# Altium footprint library dfn.PcbLib: 4 footprints
Each footprint in its own frame and in the unit in brackets; x right, y up, seen from the top. Pads: shape width x height; smd on the part's side, far side on the other; paste and mask are expansions set on the pad; w line width, h text height; cw(c..) or ccw(c..) is an arc to the next point about the centre after c.
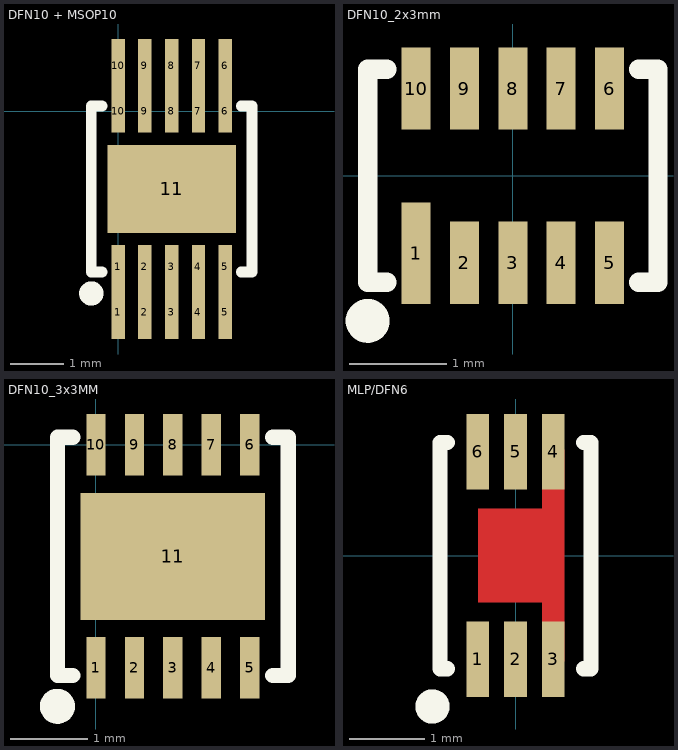
[diagram p0: the footprints below, top view; thin cyan lines are the x and y axes]

## DFN10 + MSOP10 [mm] "10 lead 3 x 3 mm"
height 1
pads (21):
  rect 0.25x0.8 smd mask+0.05: 1(0,-2.9) 2(0.5,-2.9) 3(1,-2.9) 4(1.5,-2.9) 5(2,-2.9) 6(2,0) 7(1.5,0) 8(1,0) 9(0.5,0) 10(0,0)
  rect 0.25x1 smd mask+0.1: 1(0,-3.75) 2(0.5,-3.75) 3(1,-3.75) 4(1.5,-3.75) 5(2,-3.75) 6(2,0.85) 7(1.5,0.85) 8(1,0.85) 9(0.5,0.85) 10(0,0.85)
  rect 2.4x1.65 smd: 11(1,-1.45)
Top Overlay:
  circle w0.254: c-0.5,-3.4 r0.1
  lines w0.2: -0.5,-2.85 -0.5,-0.05 ; -0.3,-3 -0.5,-3 -0.5,-2.8 -0.5,0.1 -0.3,0.1 ; 2.3,-3 2.5,-3 2.5,-0.1 2.5,0.1 2.3,0.1 ; 2.5,-2.85 2.5,-0.05
3D body "User Library-My-DFN-10-3x3-0_5.STEP": height 0.8, standoff 0, extent -0.55,-3.01 2.55,0.11
3D body "User Library-msop-10.step": height 1.15, standoff 0, extent -0.5,-3.9 2.5,1

## DFN10_2x3mm [mm] "10 lead 2 x 3 mm"
height 1
pads (10):
  rect 0.3x1.05 smd mask+0.05: 1(-1,-0.8)
  rect 0.3x0.85 smd mask+0.05: 2(-0.5,-0.9) 3(0,-0.9) 4(0.5,-0.9) 5(1,-0.9) 6(1,0.9) 7(0.5,0.9) 8(0,0.9) 9(-0.5,0.9) 10(-1,0.9)
Top Overlay:
  circle w0.254: c-1.5,-1.5 r0.1
  lines w0.2: -1.3,-1.1 -1.5,-1.1 -1.5,1.1 -1.3,1.1 ; 1.3,-1.1 1.5,-1.1 1.5,0.9 1.5,1.1 1.3,1.1
3D body "User Library-My-DFN-10-3x2-0_5.STEP": height 0.8, standoff 0, extent -1.55,-1.06 1.55,1.06

## DFN10_3x3MM [mm] "10 lead 3 x 3 mm"
height 1
pads (11):
  rect 0.25x0.8 smd mask+0.05: 1(0,-2.9) 2(0.5,-2.9) 3(1,-2.9) 4(1.5,-2.9) 5(2,-2.9) 6(2,0) 7(1.5,0) 8(1,0) 9(0.5,0) 10(0,0)
  rect 2.4x1.65 smd: 11(1,-1.45)
Top Overlay:
  circle w0.254: c-0.5,-3.4 r0.1
  lines w0.2: -0.5,-2.85 -0.5,-0.05 ; -0.3,-3 -0.5,-3 -0.5,-2.8 -0.5,0.1 -0.3,0.1 ; 2.3,-3 2.5,-3 2.5,-0.1 2.5,0.1 2.3,0.1 ; 2.5,-2.85 2.5,-0.05
3D body "User Library-My-DFN-10-3x3-0_5.STEP": height 0.8, standoff 0, extent -0.55,-3.01 2.55,0.11

## MLP/DFN6 [mm]
pads (6):
  rect 0.3x1 smd: 1(-0.5,-1.375) 2(0,-1.375) 3(0.5,-1.375) 4(0.5,1.375) 5(0,1.375) 6(-0.5,1.375)
Top Layer:
  rectangle: -0.5,-0.625 0.5,0.625
  lines w0.3: 0.5,-1.375 0.5,1.375
Top Overlay:
  circle w0.254: c-1.1,-2 r0.1
  lines w0.2: -0.9,-1.5 -1,-1.5 -1,1.5 -0.9,1.5 ; 0.9,-1.5 1,-1.5 1,1.5 0.9,1.5
Top Paste:
  rectangle: -0.475,-0.6 0.35,0.6
Top Solder:
  rectangle: -0.475,-0.6 0.4,0.6
  rectangle: 0.35,-0.8 0.75,0.8
3D body "User Library-DFN-6.STEP": height 0.8, standoff 0, extent -1,-1.5 1,1.5